# EAGLE library part SNAP-CONNECT (library Passives)
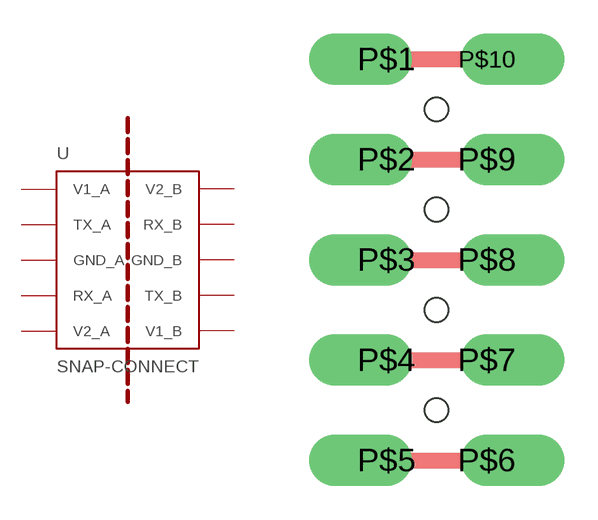
[diagram p0: symbol with the pads of SNAP-CONNECTOR; footprint SNAP-CONNECTOR]

Designator prefix -

## SNAP-CONNECT  [SNAP-CONNECTOR]
P$1  V1_A
P$2  TX_A
P$3  GND_A
P$4  RX_A
P$5  V2_A
P$6  V1_B
P$7  TX_B
P$8  GND_B
P$9  RX_B
P$10  V2_B

## Footprint SNAP-CONNECTOR (pad centres in mm)
drill 0.8 offset: P$1 -1.27,5.08; P$2 -1.27,2.54; P$3 -1.27,0; P$4 -1.27,-2.54; P$5 -1.27,-5.08; P$6 1.27,-5.08; P$7 1.27,-2.54; P$8 1.27,0; P$9 1.27,2.54; P$10 1.27,5.08
hole 0.6 at 0,3.81
hole 0.6 at 0,1.27
hole 0.6 at 0,-1.27
hole 0.6 at 0,-3.81